# EAGLE library part AD5623 (library DSP)
SPI to DAC converter
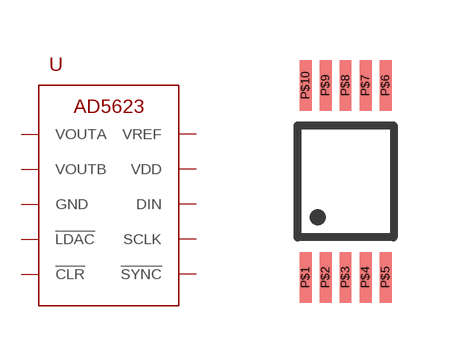
[diagram p0: symbol with the pads of MSOP10; footprint MSOP10]

Designator prefix U

## AD5623/MSOP10  [MSOP10]
P$1  VOUTA
P$2  VOUTB
P$3  GND
P$4  !LDAC
P$5  !CLR
P$6  !SYNC
P$7  SCLK
P$8  DIN
P$9  VDD
P$10  VREF

## Footprint MSOP10 (pad centres in mm)
smd 0.3 x 1.27: P$1 0,-0.4; P$2 0.5,-0.4; P$3 1,-0.4; P$4 1.5,-0.4; P$5 2,-0.4; P$6 2,4.4; P$7 1.5,4.4; P$8 1,4.4; P$9 0.5,4.4; P$10 0,4.4